# EAGLE library part WS2803 (library PP_DigitalIC)
Manufacturer Part #: WS2803 Manufacturer: Worldsemi Description: 18-Channel Constant Current LED Driver with Programmable PWM Outputs
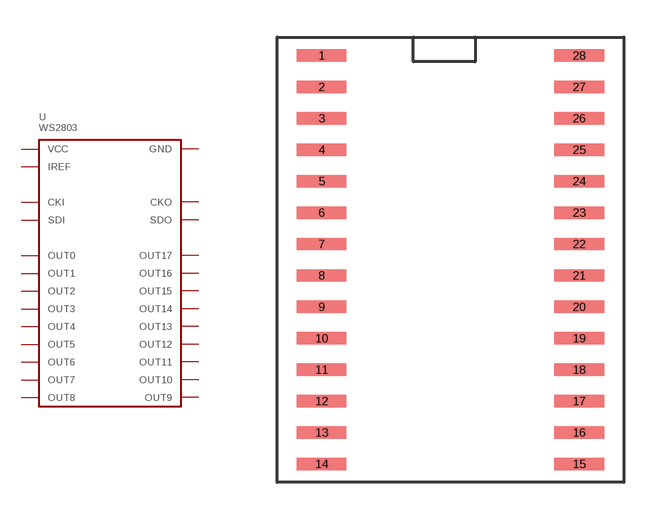
[diagram p8: symbol with the pads of WS2803_SOP-28; footprint WS2803_SOP-28]

Designator prefix U

## WS2803SO  [WS2803_SOP-28]
1  GND
3  IREF
4  CKI
5  SDI
6  OUT0
7  OUT1
8  OUT2
9  OUT3
10  OUT4
11  OUT5
12  OUT6
13  OUT7
14  OUT8
15  OUT9
16  OUT10
17  OUT11
18  OUT12
19  OUT13
20  OUT14
21  OUT15
22  OUT16
23  OUT17
24  SDO
25  CKO
28  VCC

## Footprint WS2803_SOP-28 (pad centres in mm)
smd 2 x 0.5: 1 -5.2,8.255; 2 -5.2,6.985; 3 -5.2,5.715; 4 -5.2,4.445; 5 -5.2,3.175; 6 -5.2,1.905; 7 -5.2,0.635; 8 -5.2,-0.635; 9 -5.2,-1.905; 10 -5.2,-3.175; 11 -5.2,-4.445; 12 -5.2,-5.715; 13 -5.2,-6.985; 14 -5.2,-8.255; 15 5.2,-8.255; 16 5.2,-6.985; 17 5.2,-5.715; 18 5.2,-4.445; 19 5.2,-3.175; 20 5.2,-1.905; 21 5.2,-0.635; 22 5.2,0.635; 23 5.2,1.905; 24 5.2,3.175; 25 5.2,4.445; 26 5.2,5.715; 27 5.2,6.985; 28 5.2,8.255